# EAGLE library part DD50S564TLF (library DD50S564TLF)
Amphenol FCI D Series, 50 Way Right Angle Through Hole Mount PCB D-sub Connector Socket, 2.76mm Pitch Source: Datasheet <http://docs-emea.rs-online.com/webdocs/0e52/0900766b80e52c42.pdf>
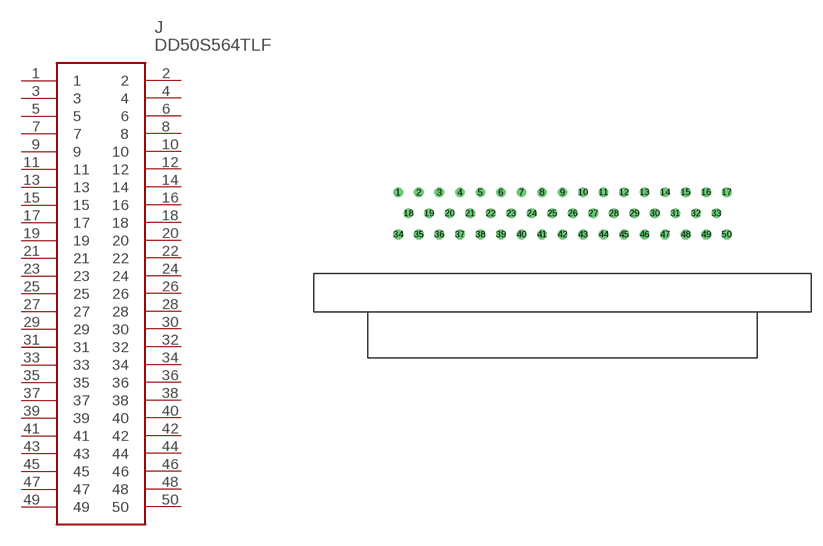
[diagram p0: symbol with the pads of DD50S564TLF; footprint DD50S564TLF]

Designator prefix J

## DD50S564TLF (Allied_Number: 70605931; Allied_Price-Stock: http://www.alliedelec.com/amphenol-fci-dd50s564tlf/70605931/; Description: Amphenol FCI D Series, 50 Way Right Angle Through Hole Mount PCB D-sub Connector Socket, 2.76mm Pitch; Height: mm; Manufacturer_Name: FCI; Manufacturer_Part_Number: DD50S564TLF; Mouser_Part_Number: 649-DD50S564TLF; Mouser_Price-Stock: https://www.mouser.com/Search/Refine.aspx?Keyword=649-DD50S564TLF; RS_Part_Number: 1217375; RS_Price-Stock: https://uk.rs-online.com/web/p/products/1217375)  [DD50S564TLF]
1  1
2  2
3  3
4  4
5  5
6  6
7  7
8  8
9  9
10  10
11  11
12  12
13  13
14  14
15  15
16  16
17  17
18  18
19  19
20  20
21  21
22  22
23  23
24  24
25  25
26  26
27  27
28  28
29  29
30  30
31  31
32  32
33  33
34  34
35  35
36  36
37  37
38  38
39  39
40  40
41  41
42  42
43  43
44  44
45  45
46  46
47  47
48  48
49  49
50  50

## Footprint DD50S564TLF (pad centres in mm)
DD50S564TLF
drill 0.8 pad 1.3: 1 -22.08,22.28; 2 -19.32,22.28; 3 -16.56,22.28; 4 -13.8,22.28; 5 -11.04,22.28; 6 -8.28,22.28; 7 -5.52,22.28; 8 -2.76,22.28; 9 0,22.28; 10 2.76,22.28; 11 5.52,22.28; 12 8.28,22.28; 13 11.04,22.28; 14 13.8,22.28; 15 16.56,22.28; 16 19.32,22.28; 17 22.08,22.28; 18 -20.7,19.44; 19 -17.94,19.44; 20 -15.18,19.44; 21 -12.42,19.44; 22 -9.66,19.44; 23 -6.9,19.44; 24 -4.14,19.44; 25 -1.38,19.44; 26 1.38,19.44; 27 4.14,19.44; 28 6.9,19.44; 29 9.66,19.44; 30 12.42,19.44; 31 15.18,19.44; 32 17.94,19.44; 33 20.7,19.44; 34 -22.08,16.6; 35 -19.32,16.6; 36 -16.56,16.6; 37 -13.8,16.6; 38 -11.04,16.6; 39 -8.28,16.6; 40 -5.52,16.6; 41 -2.76,16.6; 42 0,16.6; 43 2.76,16.6; 44 5.52,16.6; 45 8.28,16.6; 46 11.04,16.6; 47 13.8,16.6; 48 16.56,16.6; 49 19.32,16.6; 50 22.08,16.6